# Altium schematic symbol library con-phoenix-500.SCHLIB: 6 symbols
Pins are listed as number, name and electrical type; pins without a type are passive.

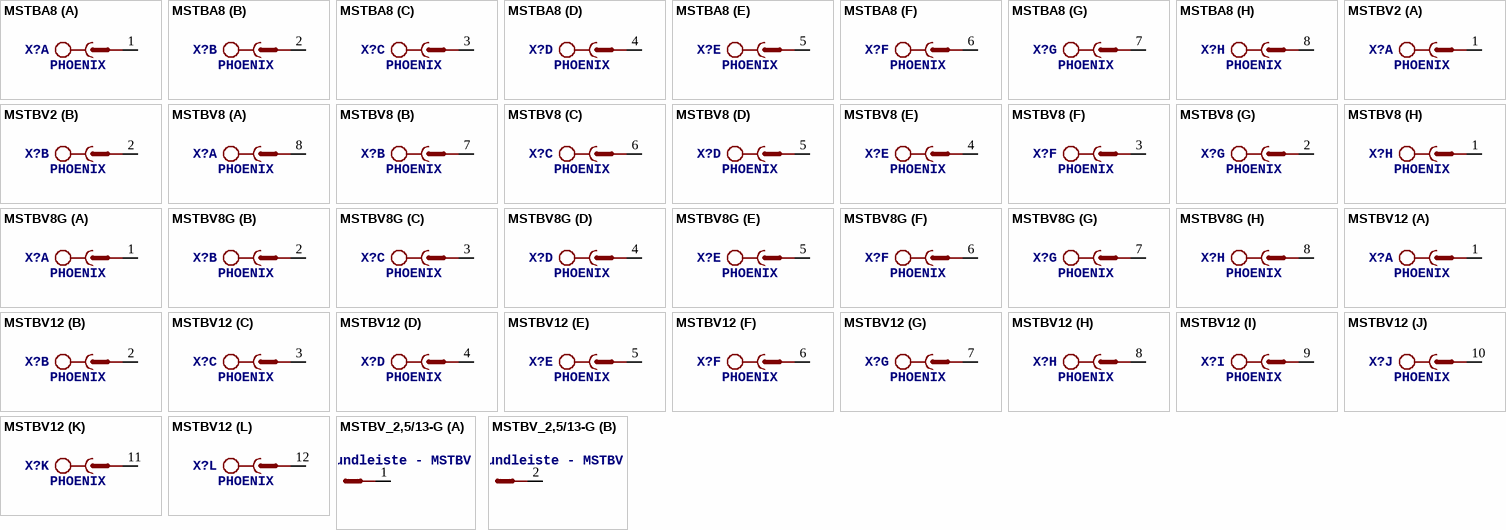
[diagram p0: symbols MSTBA8 to MSTBV_2,5/13-G]

## MSTBA8
designator X?, comment PHOENIX
OC_FARNELL: unknown; OC_NEWARK: unknown
footprint MSTBA8
part A pins: 1 SK
part B pins: 2 SK
part C pins: 3 SK
part D pins: 4 SK
part E pins: 5 SK
part F pins: 6 SK
part G pins: 7 SK
part H pins: 8 SK

## MSTBV2
designator X?, comment PHOENIX
OC_FARNELL: unknown; OC_NEWARK: unknown
footprint MSTBV2
part A pins: 1 SK
part B pins: 2 SK

## MSTBV8
designator X?, comment PHOENIX
OC_FARNELL: unknown; OC_NEWARK: unknown
footprint MSTBV8
part A pins: 8 SK
part B pins: 7 SK
part C pins: 6 SK
part D pins: 5 SK
part E pins: 4 SK
part F pins: 3 SK
part G pins: 2 SK
part H pins: 1 SK

## MSTBV8G
designator X?, comment PHOENIX
OC_FARNELL: unknown; OC_NEWARK: unknown
footprint MSTBV8G
part A pins: 1 SK
part B pins: 2 SK
part C pins: 3 SK
part D pins: 4 SK
part E pins: 5 SK
part F pins: 6 SK
part G pins: 7 SK
part H pins: 8 SK

## MSTBV12
designator X?, comment PHOENIX
OC_FARNELL: unknown; OC_NEWARK: unknown
footprint MSTBV12
part A pins: 1 SK
part B pins: 2 SK
part C pins: 3 SK
part D pins: 4 SK
part E pins: 5 SK
part F pins: 6 SK
part G pins: 7 SK
part H pins: 8 SK
part I pins: 9 SK
part J pins: 10 SK
part K pins: 11 SK
part L pins: 12 SK

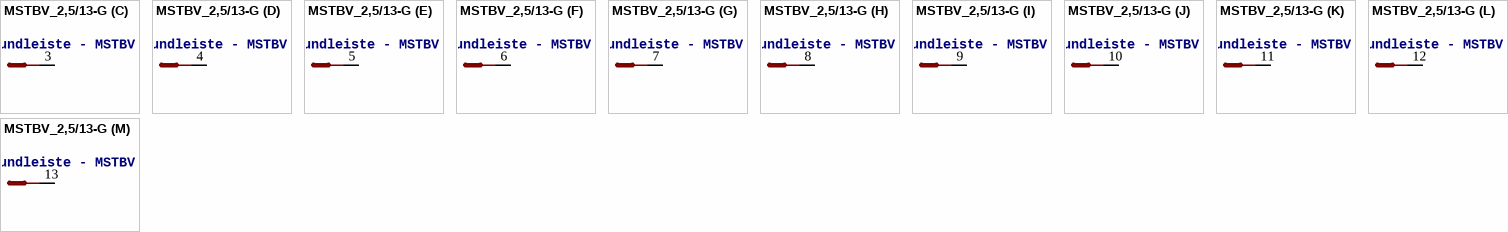
[diagram p1: symbol MSTBV_2,5/13-G]

## MSTBV_2,5/13-G
designator ?, comment Grundleiste - MSTBV 2,5/13-G - 1753657   Grundgehäuse, Nennstrom: 12 A Bemessungsspannung (III/2): 320 V Polzahl: 13 Rastermaß: 5 mm Farbe: grün Kontaktoberfläche: Zinn  Montage: Löten
footprint MSTBV_2,5/13-G
part A pins: 1 SK
part B pins: 2 SK
part C pins: 3 SK
part D pins: 4 SK
part E pins: 5 SK
part F pins: 6 SK
part G pins: 7 SK
part H pins: 8 SK
part I pins: 9 SK
part J pins: 10 SK
part K pins: 11 SK
part L pins: 12 SK
part M pins: 13 SK